# Altium integrated library TI_Logic_Flip-Flop,Latch,Register.IntLib: 2598 symbols (part 40 of 122)
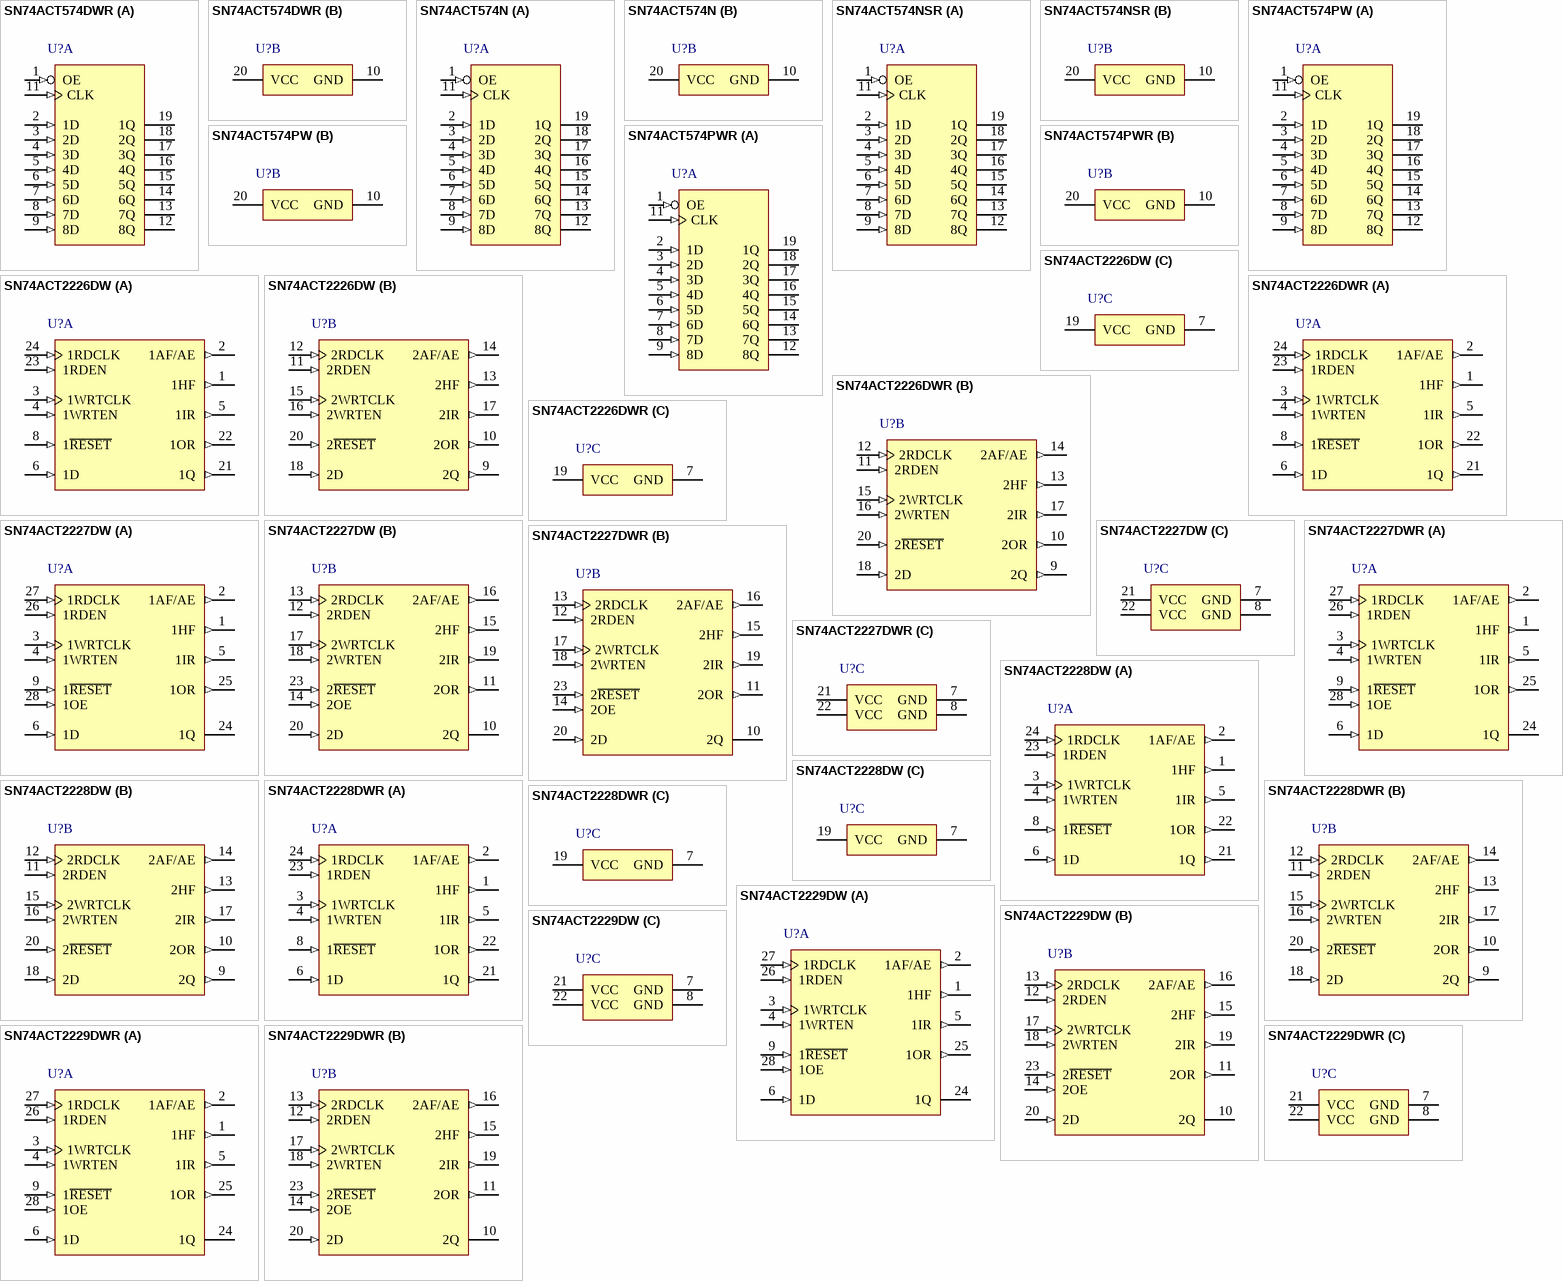
[diagram p178: symbols SN74ACT574DWR to SN74ACT2229DWR]

## SN74ACT2227DWR
designator U?
64 x 1 x 2 dual independent synchronous FIFO memories, DW0028A, LARGE T&R; Generic Part Number: SN74ACT2227; Manufacturer: Texas Instruments; PartNumber: SN74ACT2227DWR; Vcc range(V): 4.5 to 5.5; Fmax(MHz): 60; Voltage Nodes(V): 5; Sync/Async: S; Rating: Catalog; Output Drive(mA): -0.5; Flags Empty: YES; DatasheetVersion: SCAS220C; PackageReference: DW0028A; Depth: 64; Width: 1; Operating Temperature Range(C): -40 to 85; Flags Full: YES; Flags Half: YES; Code_JEDEC: MS-013; ComponentLink1Description: Manufacturer URL; ComponentLink1URL: http://www.ti.com/; ComponentLink2Description: Datasheet; ComponentLink2URL: http://www.ti.com/lit/ds/symlink/sn74act2227.pdf; ComponentLink3Description: Package Specification; ComponentLink3URL: http://www.ti.com/lit/ml/mpds175a/mpds175a.pdf
footprint DW0028A_N (SOIC, 28-Leads, Body 18.1x7.6mm, Pitch 1.27mm, IPC Medium Density)
footprint DW0028A_M (SOIC, 28-Leads, Body 18.1x7.6mm, Pitch 1.27mm, IPC Low Density)
footprint DW0028A_L (SOIC, 28-Leads, Body 18.1x7.6mm, Pitch 1.27mm, IPC High Density)
part A pins: 1 1HF (out) "Half-full flag. HF is high when the number of bits stored in memory is greater than or equal to half the FIFO depth. HF is set low after reset.", 2 1AF/AE (out) "Almost-full/almost-empty flag. AF/AE is high when the memory is eight locations or fewer from a full or empty state. AF/AE is set high after reset.", 3 1WRTCLK (in) "Write clock. WRTCLK is a continuous clock and can be independent of any other clock on the device. A low-to-high transition of WRTCLK writes data to memory when WRTEN and IR are high. IR is synchronous with the low-to-high (See Datasheet)", 4 1WRTEN (in) "Write enable. When WRTEN and IR are high, data is written to the FIFO on a low-to-high transition of WRTCLK.", 5 1IR (out) "Input-ready flag. IR is synchronized to the low-to-high transition of WRTCLK. When IR is low, the FIFO is full and writes are disabled. IR is set low during reset and is set high on the second low-to-high transition of (See Datasheet)", 6 1D (in) "Data input", 9 1~{RESET} (in) "Reset. To reset the FIFO, four low-to-high transitions of RDCLK and four low-to-high transitions of WRTCLK must occur while R\E\S\E\T\ is low. This sets HF, IR, and OR low and AF/AE high. Before it is used, a FIFO must be (See Datasheet)", 24 1Q (hiz) "Data outputs. After the first valid write to empty memory, the first bit is output on the third rising edge of RDCLK. OR for the FIFO is asserted high to indicate ready data.", 25 1OR (out) "Output-ready flag. OR is synchronized to the low-to-high transition of RDCLK. When OR is low, the FIFO is empty and reads are disabled. Ready data is present on the data output when OR is high. OR is set low during reset and (See Datasheet)", 26 1RDEN (in) "Read enable. When the RDEN and OR of a FIFO are high, data is read from the FIFO on the low-to-high transition of RDCLK.", 27 1RDCLK (in) "Read clock. RDCLK is a continuous clock and can be independent of any other clock on the device. A low-to-high transition of RDCLK reads data from memory when the FIFO RDEN and OR are high. OR is synchronous with the (See Datasheet)", 28 1OE (in) "Output enable. The data output of a FIFO is active when OE is high and in the high-impedance state when OE is low."
part B pins: 10 2Q (hiz) "Data outputs. After the first valid write to empty memory, the first bit is output on the third rising edge of RDCLK. OR for the FIFO is asserted high to indicate ready data.", 11 2OR (out) "Output-ready flag. OR is synchronized to the low-to-high transition of RDCLK. When OR is low, the FIFO is empty and reads are disabled. Ready data is present on the data output when OR is high. OR is set low during reset and (See Datasheet)", 12 2RDEN (in) "Read enable. When the RDEN and OR of a FIFO are high, data is read from the FIFO on the low-to-high transition of RDCLK.", 13 2RDCLK (in) "Read clock. RDCLK is a continuous clock and can be independent of any other clock on the device. A low-to-high transition of RDCLK reads data from memory when the FIFO RDEN and OR are high. OR is synchronous with the (See Datasheet)", 14 2OE (in) "Output enable. The data output of a FIFO is active when OE is high and in the high-impedance state when OE is low.", 15 2HF (out) "Half-full flag. HF is high when the number of bits stored in memory is greater than or equal to half the FIFO depth. HF is set low after reset.", 16 2AF/AE (out) "Almost-full/almost-empty flag. AF/AE is high when the memory is eight locations or fewer from a full or empty state. AF/AE is set high after reset.", 17 2WRTCLK (in) "Write clock. WRTCLK is a continuous clock and can be independent of any other clock on the device. A low-to-high transition of WRTCLK writes data to memory when WRTEN and IR are high. IR is synchronous with the low-to-high (See Datasheet)", 18 2WRTEN (in) "Write enable. When WRTEN and IR are high, data is written to the FIFO on a low-to-high transition of WRTCLK.", 19 2IR (out) "Input-ready flag. IR is synchronized to the low-to-high transition of WRTCLK. When IR is low, the FIFO is full and writes are disabled. IR is set low during reset and is set high on the second low-to-high transition of (See Datasheet)", 20 2D (in) "Data input", 23 2~{RESET} (in) "Reset. To reset the FIFO, four low-to-high transitions of RDCLK and four low-to-high transitions of WRTCLK must occur while R\E\S\E\T\ is low. This sets HF, IR, and OR low and AF/AE high. Before it is used, a FIFO must be (See Datasheet)"
part C pins: 7 GND (power) "Ground", 8 GND (power) "Ground", 21 VCC (power) "Supply voltage", 22 VCC (power) "Supply voltage"

## SN74ACT2228DW
designator U?
256 x 1 x 2 dual independent synchronous FIFO memories, DW0024A, TUBE; Generic Part Number: SN74ACT2228; Manufacturer: Texas Instruments; PartNumber: SN74ACT2228DW; Vcc range(V): 4.5 to 5.5; Fmax(MHz): 22; Voltage Nodes(V): 5; Sync/Async: S; Rating: Catalog; Output Drive(mA): -0.5; Flags Empty: YES; DatasheetVersion: SCAS219C; PackageReference: DW0024A; Depth: 256; Width: 1; Operating Temperature Range(C): -40 to 85; Flags Full: YES; Flags Half: YES; Code_JEDEC: MS-013; ComponentLink1Description: Manufacturer URL; ComponentLink1URL: http://www.ti.com/; ComponentLink2Description: Datasheet; ComponentLink2URL: http://www.ti.com/lit/ds/symlink/sn74act2228.pdf; ComponentLink3Description: Package Specification; ComponentLink3URL: http://www.ti.com/lit/ml/mpds174a/mpds174a.pdf
footprint DW0024A_N (SOIC, 24-Leads, Body 15.6x7.6mm, Pitch 1.27mm, IPC Medium Density)
footprint DW0024A_M (SOIC, 24-Leads, Body 15.6x7.6mm, Pitch 1.27mm, IPC Low Density)
footprint DW0024A_L (SOIC, 24-Leads, Body 15.6x7.6mm, Pitch 1.27mm, IPC High Density)
part A pins: 1 1HF (out) "Half-full flag. HF is high when the number of bits stored in memory is greater than or equal to half the FIFO depth. HF is set low after reset.", 2 1AF/AE (out) "Almost-full/almost-empty flag. AF/AE is high when the memory is eight locations or less from a full or empty state. AF/AE is set high after reset.", 3 1WRTCLK (in) "Write clock. WRTCLK is a continuous clock and can be independent of any other clock on the device. A low-to-high transition of WRTCLK writes data to memory when WRTEN and IR are high. IR is synchronous with the low-to-high (See Datasheet)", 4 1WRTEN (in) "Write enable. When WRTEN and IR are high, data is written to the FIFO on a low-to-high transition of WRTCLK.", 5 1IR (out) "Input-ready flag. IR is synchronized to the low-to-high transition of WRTCLK. When IR is low, the FIFO is full and writes are disabled. IR is set low during reset and is set high on the second low-to-high transition of (See Datasheet)", 6 1D (in) "Data input", 8 1~{RESET} (in) "Reset. To reset the FIFO, four low-to-high transitions of RDCLK and four low-to-high transitions of WRTCLK must occur while R\E\S\E\T\ is low. This sets HF, IR, and OR low and AF/AE high. Before it is used, a FIFO must be (See Datasheet)", 21 1Q (out) "Data outputs. After the first valid write to empty memory, the first bit is output on the third rising edge of RDCLK. OR for the FIFO is asserted high to indicate ready data.", 22 1OR (out) "Output-ready flag. OR is synchronized to the low-to-high transition of RDCLK. When OR is low, the FIFO is empty and reads are disabled. Ready data is present on the data output when OR is high. OR is set low during reset and (See Datasheet)", 23 1RDEN (in) "Read enable. When the RDEN and OR of a FIFO are high, data is read from the FIFO on the low-to-high transition of RDCLK.", 24 1RDCLK (in) "Read clock. RDCLK is a continuous clock and can be independent of any other clock on the device. A low-to-high transition of RDCLK reads data from memory when the FIFO RDEN and OR are high. OR is synchronous with the (See Datasheet)"
part B pins: 9 2Q (out) "Data outputs. After the first valid write to empty memory, the first bit is output on the third rising edge of RDCLK. OR for the FIFO is asserted high to indicate ready data.", 10 2OR (out) "Output-ready flag. OR is synchronized to the low-to-high transition of RDCLK. When OR is low, the FIFO is empty and reads are disabled. Ready data is present on the data output when OR is high. OR is set low during reset and (See Datasheet)", 11 2RDEN (in) "Read enable. When the RDEN and OR of a FIFO are high, data is read from the FIFO on the low-to-high transition of RDCLK.", 12 2RDCLK (in) "Read clock. RDCLK is a continuous clock and can be independent of any other clock on the device. A low-to-high transition of RDCLK reads data from memory when the FIFO RDEN and OR are high. OR is synchronous with the (See Datasheet)", 13 2HF (out) "Half-full flag. HF is high when the number of bits stored in memory is greater than or equal to half the FIFO depth. HF is set low after reset.", 14 2AF/AE (out) "Almost-full/almost-empty flag. AF/AE is high when the memory is eight locations or less from a full or empty state. AF/AE is set high after reset.", 15 2WRTCLK (in) "Write clock. WRTCLK is a continuous clock and can be independent of any other clock on the device. A low-to-high transition of WRTCLK writes data to memory when WRTEN and IR are high. IR is synchronous with the low-to-high (See Datasheet)", 16 2WRTEN (in) "Write enable. When WRTEN and IR are high, data is written to the FIFO on a low-to-high transition of WRTCLK.", 17 2IR (out) "Input-ready flag. IR is synchronized to the low-to-high transition of WRTCLK. When IR is low, the FIFO is full and writes are disabled. IR is set low during reset and is set high on the second low-to-high transition of (See Datasheet)", 18 2D (in) "Data input", 20 2~{RESET} (in) "Reset. To reset the FIFO, four low-to-high transitions of RDCLK and four low-to-high transitions of WRTCLK must occur while R\E\S\E\T\ is low. This sets HF, IR, and OR low and AF/AE high. Before it is used, a FIFO must be (See Datasheet)"
part C pins: 7 GND (power) "Ground", 19 VCC (power) "Supply voltage"

## SN74ACT2228DWR
designator U?
256 x 1 x 2 dual independent synchronous FIFO memories, DW0024A, LARGE T&R; Generic Part Number: SN74ACT2228; Manufacturer: Texas Instruments; PartNumber: SN74ACT2228DWR; Vcc range(V): 4.5 to 5.5; Fmax(MHz): 22; Voltage Nodes(V): 5; Sync/Async: S; Rating: Catalog; Output Drive(mA): -0.5; Flags Empty: YES; DatasheetVersion: SCAS219C; PackageReference: DW0024A; Depth: 256; Width: 1; Operating Temperature Range(C): -40 to 85; Flags Full: YES; Flags Half: YES; Code_JEDEC: MS-013; ComponentLink1Description: Manufacturer URL; ComponentLink1URL: http://www.ti.com/; ComponentLink2Description: Datasheet; ComponentLink2URL: http://www.ti.com/lit/ds/symlink/sn74act2228.pdf; ComponentLink3Description: Package Specification; ComponentLink3URL: http://www.ti.com/lit/ml/mpds174a/mpds174a.pdf
footprint DW0024A_N (SOIC, 24-Leads, Body 15.6x7.6mm, Pitch 1.27mm, IPC Medium Density)
footprint DW0024A_M (SOIC, 24-Leads, Body 15.6x7.6mm, Pitch 1.27mm, IPC Low Density)
footprint DW0024A_L (SOIC, 24-Leads, Body 15.6x7.6mm, Pitch 1.27mm, IPC High Density)
part A pins: 1 1HF (out) "Half-full flag. HF is high when the number of bits stored in memory is greater than or equal to half the FIFO depth. HF is set low after reset.", 2 1AF/AE (out) "Almost-full/almost-empty flag. AF/AE is high when the memory is eight locations or less from a full or empty state. AF/AE is set high after reset.", 3 1WRTCLK (in) "Write clock. WRTCLK is a continuous clock and can be independent of any other clock on the device. A low-to-high transition of WRTCLK writes data to memory when WRTEN and IR are high. IR is synchronous with the low-to-high (See Datasheet)", 4 1WRTEN (in) "Write enable. When WRTEN and IR are high, data is written to the FIFO on a low-to-high transition of WRTCLK.", 5 1IR (out) "Input-ready flag. IR is synchronized to the low-to-high transition of WRTCLK. When IR is low, the FIFO is full and writes are disabled. IR is set low during reset and is set high on the second low-to-high transition of (See Datasheet)", 6 1D (in) "Data input", 8 1~{RESET} (in) "Reset. To reset the FIFO, four low-to-high transitions of RDCLK and four low-to-high transitions of WRTCLK must occur while R\E\S\E\T\ is low. This sets HF, IR, and OR low and AF/AE high. Before it is used, a FIFO must be (See Datasheet)", 21 1Q (out) "Data outputs. After the first valid write to empty memory, the first bit is output on the third rising edge of RDCLK. OR for the FIFO is asserted high to indicate ready data.", 22 1OR (out) "Output-ready flag. OR is synchronized to the low-to-high transition of RDCLK. When OR is low, the FIFO is empty and reads are disabled. Ready data is present on the data output when OR is high. OR is set low during reset and (See Datasheet)", 23 1RDEN (in) "Read enable. When the RDEN and OR of a FIFO are high, data is read from the FIFO on the low-to-high transition of RDCLK.", 24 1RDCLK (in) "Read clock. RDCLK is a continuous clock and can be independent of any other clock on the device. A low-to-high transition of RDCLK reads data from memory when the FIFO RDEN and OR are high. OR is synchronous with the (See Datasheet)"
part B pins: 9 2Q (out) "Data outputs. After the first valid write to empty memory, the first bit is output on the third rising edge of RDCLK. OR for the FIFO is asserted high to indicate ready data.", 10 2OR (out) "Output-ready flag. OR is synchronized to the low-to-high transition of RDCLK. When OR is low, the FIFO is empty and reads are disabled. Ready data is present on the data output when OR is high. OR is set low during reset and (See Datasheet)", 11 2RDEN (in) "Read enable. When the RDEN and OR of a FIFO are high, data is read from the FIFO on the low-to-high transition of RDCLK.", 12 2RDCLK (in) "Read clock. RDCLK is a continuous clock and can be independent of any other clock on the device. A low-to-high transition of RDCLK reads data from memory when the FIFO RDEN and OR are high. OR is synchronous with the (See Datasheet)", 13 2HF (out) "Half-full flag. HF is high when the number of bits stored in memory is greater than or equal to half the FIFO depth. HF is set low after reset.", 14 2AF/AE (out) "Almost-full/almost-empty flag. AF/AE is high when the memory is eight locations or less from a full or empty state. AF/AE is set high after reset.", 15 2WRTCLK (in) "Write clock. WRTCLK is a continuous clock and can be independent of any other clock on the device. A low-to-high transition of WRTCLK writes data to memory when WRTEN and IR are high. IR is synchronous with the low-to-high (See Datasheet)", 16 2WRTEN (in) "Write enable. When WRTEN and IR are high, data is written to the FIFO on a low-to-high transition of WRTCLK.", 17 2IR (out) "Input-ready flag. IR is synchronized to the low-to-high transition of WRTCLK. When IR is low, the FIFO is full and writes are disabled. IR is set low during reset and is set high on the second low-to-high transition of (See Datasheet)", 18 2D (in) "Data input", 20 2~{RESET} (in) "Reset. To reset the FIFO, four low-to-high transitions of RDCLK and four low-to-high transitions of WRTCLK must occur while R\E\S\E\T\ is low. This sets HF, IR, and OR low and AF/AE high. Before it is used, a FIFO must be (See Datasheet)"
part C pins: 7 GND (power) "Ground", 19 VCC (power) "Supply voltage"

## SN74ACT2229DW
designator U?
256 x 1 x 2 dual independent synchronous FIFO memories, DW0028A, TUBE; Generic Part Number: SN74ACT2229; Manufacturer: Texas Instruments; PartNumber: SN74ACT2229DW; Vcc range(V): 4.5 to 5.5; Fmax(MHz): 60; Voltage Nodes(V): 5; Sync/Async: S; Rating: Catalog; Output Drive(mA): -0.5; Flags Empty: YES; DatasheetVersion: SCAS220C; PackageReference: DW0028A; Depth: 256; Width: 1; Operating Temperature Range(C): -40 to 85; Flags Full: YES; Flags Half: YES; Code_JEDEC: MS-013; ComponentLink1Description: Manufacturer URL; ComponentLink1URL: http://www.ti.com/; ComponentLink2Description: Datasheet; ComponentLink2URL: http://www.ti.com/lit/ds/symlink/sn74act2229.pdf; ComponentLink3Description: Package Specification; ComponentLink3URL: http://www.ti.com/lit/ml/mpds175a/mpds175a.pdf
footprint DW0028A_N (SOIC, 28-Leads, Body 18.1x7.6mm, Pitch 1.27mm, IPC Medium Density)
footprint DW0028A_M (SOIC, 28-Leads, Body 18.1x7.6mm, Pitch 1.27mm, IPC Low Density)
footprint DW0028A_L (SOIC, 28-Leads, Body 18.1x7.6mm, Pitch 1.27mm, IPC High Density)
part A pins: 1 1HF (out) "Half-full flag. HF is high when the number of bits stored in memory is greater than or equal to half the FIFO depth. HF is set low after reset.", 2 1AF/AE (out) "Almost-full/almost-empty flag. AF/AE is high when the memory is eight locations or fewer from a full or empty state. AF/AE is set high after reset.", 3 1WRTCLK (in) "Write clock. WRTCLK is a continuous clock and can be independent of any other clock on the device. A low-to-high transition of WRTCLK writes data to memory when WRTEN and IR are high. IR is synchronous with the low-to-high (See Datasheet)", 4 1WRTEN (in) "Write enable. When WRTEN and IR are high, data is written to the FIFO on a low-to-high transition of WRTCLK.", 5 1IR (out) "Input-ready flag. IR is synchronized to the low-to-high transition of WRTCLK. When IR is low, the FIFO is full and writes are disabled. IR is set low during reset and is set high on the second low-to-high transition of (See Datasheet)", 6 1D (in) "Data input", 9 1~{RESET} (in) "Reset. To reset the FIFO, four low-to-high transitions of RDCLK and four low-to-high transitions of WRTCLK must occur while R\E\S\E\T\ is low. This sets HF, IR, and OR low and AF/AE high. Before it is used, a FIFO must be (See Datasheet)", 24 1Q (hiz) "Data outputs. After the first valid write to empty memory, the first bit is output on the third rising edge of RDCLK. OR for the FIFO is asserted high to indicate ready data.", 25 1OR (out) "Output-ready flag. OR is synchronized to the low-to-high transition of RDCLK. When OR is low, the FIFO is empty and reads are disabled. Ready data is present on the data output when OR is high. OR is set low during reset and (See Datasheet)", 26 1RDEN (in) "Read enable. When the RDEN and OR of a FIFO are high, data is read from the FIFO on the low-to-high transition of RDCLK.", 27 1RDCLK (in) "Read clock. RDCLK is a continuous clock and can be independent of any other clock on the device. A low-to-high transition of RDCLK reads data from memory when the FIFO RDEN and OR are high. OR is synchronous with the (See Datasheet)", 28 1OE (in) "Output enable. The data output of a FIFO is active when OE is high and in the high-impedance state when OE is low."
part B pins: 10 2Q (hiz) "Data outputs. After the first valid write to empty memory, the first bit is output on the third rising edge of RDCLK. OR for the FIFO is asserted high to indicate ready data.", 11 2OR (out) "Output-ready flag. OR is synchronized to the low-to-high transition of RDCLK. When OR is low, the FIFO is empty and reads are disabled. Ready data is present on the data output when OR is high. OR is set low during reset and (See Datasheet)", 12 2RDEN (in) "Read enable. When the RDEN and OR of a FIFO are high, data is read from the FIFO on the low-to-high transition of RDCLK.", 13 2RDCLK (in) "Read clock. RDCLK is a continuous clock and can be independent of any other clock on the device. A low-to-high transition of RDCLK reads data from memory when the FIFO RDEN and OR are high. OR is synchronous with the (See Datasheet)", 14 2OE (in) "Output enable. The data output of a FIFO is active when OE is high and in the high-impedance state when OE is low.", 15 2HF (out) "Half-full flag. HF is high when the number of bits stored in memory is greater than or equal to half the FIFO depth. HF is set low after reset.", 16 2AF/AE (out) "Almost-full/almost-empty flag. AF/AE is high when the memory is eight locations or fewer from a full or empty state. AF/AE is set high after reset.", 17 2WRTCLK (in) "Write clock. WRTCLK is a continuous clock and can be independent of any other clock on the device. A low-to-high transition of WRTCLK writes data to memory when WRTEN and IR are high. IR is synchronous with the low-to-high (See Datasheet)", 18 2WRTEN (in) "Write enable. When WRTEN and IR are high, data is written to the FIFO on a low-to-high transition of WRTCLK.", 19 2IR (out) "Input-ready flag. IR is synchronized to the low-to-high transition of WRTCLK. When IR is low, the FIFO is full and writes are disabled. IR is set low during reset and is set high on the second low-to-high transition of (See Datasheet)", 20 2D (in) "Data input", 23 2~{RESET} (in) "Reset. To reset the FIFO, four low-to-high transitions of RDCLK and four low-to-high transitions of WRTCLK must occur while R\E\S\E\T\ is low. This sets HF, IR, and OR low and AF/AE high. Before it is used, a FIFO must be (See Datasheet)"
part C pins: 7 GND (power) "Ground", 8 GND (power) "Ground", 21 VCC (power) "Supply voltage", 22 VCC (power) "Supply voltage"

## SN74ACT2229DWR
designator U?
256 x 1 x 2 dual independent synchronous FIFO memories, DW0028A, LARGE T&R; Generic Part Number: SN74ACT2229; Manufacturer: Texas Instruments; PartNumber: SN74ACT2229DWR; Vcc range(V): 4.5 to 5.5; Fmax(MHz): 60; Voltage Nodes(V): 5; Sync/Async: S; Rating: Catalog; Output Drive(mA): -0.5; Flags Empty: YES; DatasheetVersion: SCAS220C; PackageReference: DW0028A; Depth: 256; Width: 1; Operating Temperature Range(C): -40 to 85; Flags Full: YES; Flags Half: YES; Code_JEDEC: MS-013; ComponentLink1Description: Manufacturer URL; ComponentLink1URL: http://www.ti.com/; ComponentLink2Description: Datasheet; ComponentLink2URL: http://www.ti.com/lit/ds/symlink/sn74act2229.pdf; ComponentLink3Description: Package Specification; ComponentLink3URL: http://www.ti.com/lit/ml/mpds175a/mpds175a.pdf
footprint DW0028A_N (SOIC, 28-Leads, Body 18.1x7.6mm, Pitch 1.27mm, IPC Medium Density)
footprint DW0028A_M (SOIC, 28-Leads, Body 18.1x7.6mm, Pitch 1.27mm, IPC Low Density)
footprint DW0028A_L (SOIC, 28-Leads, Body 18.1x7.6mm, Pitch 1.27mm, IPC High Density)
part A pins: 1 1HF (out) "Half-full flag. HF is high when the number of bits stored in memory is greater than or equal to half the FIFO depth. HF is set low after reset.", 2 1AF/AE (out) "Almost-full/almost-empty flag. AF/AE is high when the memory is eight locations or fewer from a full or empty state. AF/AE is set high after reset.", 3 1WRTCLK (in) "Write clock. WRTCLK is a continuous clock and can be independent of any other clock on the device. A low-to-high transition of WRTCLK writes data to memory when WRTEN and IR are high. IR is synchronous with the low-to-high (See Datasheet)", 4 1WRTEN (in) "Write enable. When WRTEN and IR are high, data is written to the FIFO on a low-to-high transition of WRTCLK.", 5 1IR (out) "Input-ready flag. IR is synchronized to the low-to-high transition of WRTCLK. When IR is low, the FIFO is full and writes are disabled. IR is set low during reset and is set high on the second low-to-high transition of (See Datasheet)", 6 1D (in) "Data input", 9 1~{RESET} (in) "Reset. To reset the FIFO, four low-to-high transitions of RDCLK and four low-to-high transitions of WRTCLK must occur while R\E\S\E\T\ is low. This sets HF, IR, and OR low and AF/AE high. Before it is used, a FIFO must be (See Datasheet)", 24 1Q (hiz) "Data outputs. After the first valid write to empty memory, the first bit is output on the third rising edge of RDCLK. OR for the FIFO is asserted high to indicate ready data.", 25 1OR (out) "Output-ready flag. OR is synchronized to the low-to-high transition of RDCLK. When OR is low, the FIFO is empty and reads are disabled. Ready data is present on the data output when OR is high. OR is set low during reset and (See Datasheet)", 26 1RDEN (in) "Read enable. When the RDEN and OR of a FIFO are high, data is read from the FIFO on the low-to-high transition of RDCLK.", 27 1RDCLK (in) "Read clock. RDCLK is a continuous clock and can be independent of any other clock on the device. A low-to-high transition of RDCLK reads data from memory when the FIFO RDEN and OR are high. OR is synchronous with the (See Datasheet)", 28 1OE (in) "Output enable. The data output of a FIFO is active when OE is high and in the high-impedance state when OE is low."
part B pins: 10 2Q (hiz) "Data outputs. After the first valid write to empty memory, the first bit is output on the third rising edge of RDCLK. OR for the FIFO is asserted high to indicate ready data.", 11 2OR (out) "Output-ready flag. OR is synchronized to the low-to-high transition of RDCLK. When OR is low, the FIFO is empty and reads are disabled. Ready data is present on the data output when OR is high. OR is set low during reset and (See Datasheet)", 12 2RDEN (in) "Read enable. When the RDEN and OR of a FIFO are high, data is read from the FIFO on the low-to-high transition of RDCLK.", 13 2RDCLK (in) "Read clock. RDCLK is a continuous clock and can be independent of any other clock on the device. A low-to-high transition of RDCLK reads data from memory when the FIFO RDEN and OR are high. OR is synchronous with the (See Datasheet)", 14 2OE (in) "Output enable. The data output of a FIFO is active when OE is high and in the high-impedance state when OE is low.", 15 2HF (out) "Half-full flag. HF is high when the number of bits stored in memory is greater than or equal to half the FIFO depth. HF is set low after reset.", 16 2AF/AE (out) "Almost-full/almost-empty flag. AF/AE is high when the memory is eight locations or fewer from a full or empty state. AF/AE is set high after reset.", 17 2WRTCLK (in) "Write clock. WRTCLK is a continuous clock and can be independent of any other clock on the device. A low-to-high transition of WRTCLK writes data to memory when WRTEN and IR are high. IR is synchronous with the low-to-high (See Datasheet)", 18 2WRTEN (in) "Write enable. When WRTEN and IR are high, data is written to the FIFO on a low-to-high transition of WRTCLK.", 19 2IR (out) "Input-ready flag. IR is synchronized to the low-to-high transition of WRTCLK. When IR is low, the FIFO is full and writes are disabled. IR is set low during reset and is set high on the second low-to-high transition of (See Datasheet)", 20 2D (in) "Data input", 23 2~{RESET} (in) "Reset. To reset the FIFO, four low-to-high transitions of RDCLK and four low-to-high transitions of WRTCLK must occur while R\E\S\E\T\ is low. This sets HF, IR, and OR low and AF/AE high. Before it is used, a FIFO must be (See Datasheet)"
part C pins: 7 GND (power) "Ground", 8 GND (power) "Ground", 21 VCC (power) "Supply voltage", 22 VCC (power) "Supply voltage"

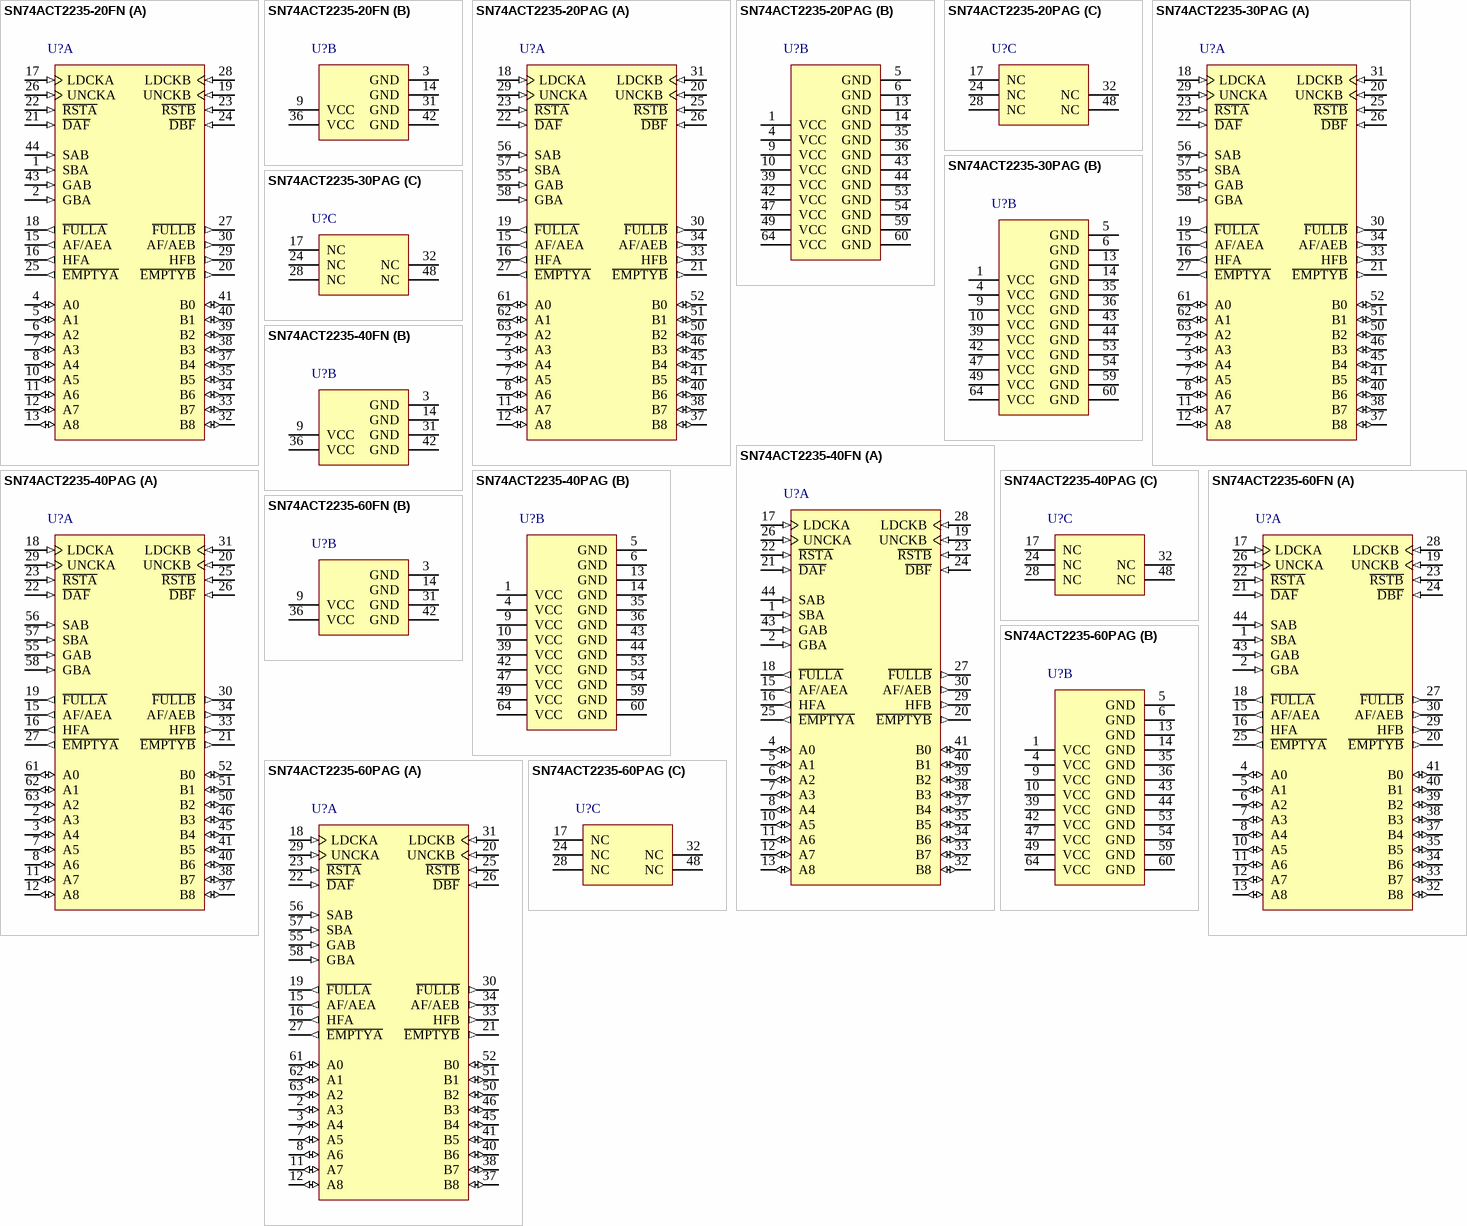
[diagram p53: symbols SN74ACT2235-20FN to SN74ACT2235-60PAG]

## SN74ACT2235-20FN
designator U?
1024 x 9 x 2 Asynchronous Bidirectional FIFO Memory, FN0044A, TUBE; Generic Part Number: SN74ACT2235; Manufacturer: Texas Instruments; PartNumber: SN74ACT2235-20FN; Vcc range(V): 4.5 to 5.5; Fmax(MHz): 50; Voltage Nodes(V): 5; Sync/Async: A; Rating: Catalog; Output Drive(mA): -0.5; Flags Empty: YES; DatasheetVersion: SCAS148F; PackageReference: FN0044A; Depth: 1024; Width: 9; Operating Temperature Range(C): 0 to 70; Flags Full: YES; Flags Half: YES; Code_JEDEC: MS-018; ComponentLink1Description: Manufacturer URL; ComponentLink1URL: http://www.ti.com/; ComponentLink2Description: Datasheet; ComponentLink2URL: http://www.ti.com/lit/ds/symlink/sn74act2235.pdf; ComponentLink3Description: Package Specification; ComponentLink3URL: http://www.ti.com/lit/ml/mplc004a/mplc004a.pdf
footprint FN0044A_N (PLCC, 44-Leads, Body 16.66x16.66mm, Pitch 1.27mm, IPC Medium Density)
footprint FN0044A_M (PLCC, 44-Leads, Body 16.66x16.66mm, Pitch 1.27mm, IPC Low Density)
footprint FN0044A_L (PLCC, 44-Leads, Body 16.66x16.66mm, Pitch 1.27mm, IPC High Density)
part A pins: 1 SBA (in) "Select-control inputs. SAB and SBA select whether real-time or stored data is transferred. A low level selects real-time data and a high level selects stored data. Eight fundamental bus-management functions can be performed (See Datasheet)", 2 GBA (in) "Output enables. GAB, GBA control the transceiver functions. When GBA is low, A0-A8 are in the high-impedance state. When GAB is low, B0-B8 are in the high-impedance state.", 4 A0 (io) "A-data inputs and outputs", 5 A1 (io) "A-data inputs and outputs", 6 A2 (io) "A-data inputs and outputs", 7 A3 (io) "A-data inputs and outputs", 8 A4 (io) "A-data inputs and outputs", 10 A5 (io) "A-data inputs and outputs", 11 A6 (io) "A-data inputs and outputs", 12 A7 (io) "A-data inputs and outputs", 13 A8 (io) "A-data inputs and outputs", 15 AF/AEA (out) "Almost full/almost empty flags. The almost-full/almost-empty A flag (AF/AEA) is defined by the almost-full/almost-empty offset value for FIFO A (X). AF/AEA is high when FIFO A contains X or fewer words or 1024 - X words. (See Datasheet)", 16 HFA (out) "Half-full flags. HFA and HFB are high when their corresponding memories contain 512 or more words and low when they contain 511 or fewer words.", 17 LDCKA (in) "Load clocks. Data on A0-A8 is written into FIFO A on a low-to-high transition of LDCKA. Data on B0-B8 is written into FIFO B on a low-to-high transition of LDCKB. When the FIFOs are full, LDCKA and LDCKB have no effect on (See Datasheet)", 18 ~{FULLA} (out) "Full flags. F\U\L\L\A\ and F\U\L\L\B\ are low when their corresponding memories are full and high when they are not full.", 19 UNCKB (in) "Unload clocks. Data in FIFO A is read to B0-B8 on a low-to-high transition of UNCKA. Data in FIFO B is read to A0-A8 on a low-to-high transition of UNCKB. When the FIFOs are empty, UNCKA and UNCKB have no effect on data (See Datasheet)", 20 ~{EMPTYB} (out) "Empty flags. E\M\P\T\Y\A\ and E\M\P\T\Y\B\ are low when their corresponding memories are empty and high when they are not empty.", 21 ~{DAF} (in) "Define-flag inputs. The high-to-low transition of D\A\F\ stores the binary value on A0-A8 as the almost-full/almost-empty offset value for FIFO A (X). The high-to-low transition of D\B\F\ stores the binary value of B0-B8 as (See Datasheet)", 22 ~{RSTA} (in) "Reset. A reset is accomplished in each direction by taking R\S\T\A\ and R\S\T\B\ low. This sets E\M\P\T\Y\A\, E\M\P\T\Y\B\, F\U\L\L\A\, F\U\L\L\B\, and AF/AEB high. Both FIFOs must be reset upon power up.", 23 ~{RSTB} (in) "Reset. A reset is accomplished in each direction by taking R\S\T\A\ and R\S\T\B\ low. This sets E\M\P\T\Y\A\, E\M\P\T\Y\B\, F\U\L\L\A\, F\U\L\L\B\, and AF/AEB high. Both FIFOs must be reset upon power up.", 24 ~{DBF} (in) "Define-flag inputs. The high-to-low transition of D\A\F\ stores the binary value on A0-A8 as the almost-full/almost-empty offset value for FIFO A (X). The high-to-low transition of D\B\F\ stores the binary value of B0-B8 as (See Datasheet)", 25 ~{EMPTYA} (out) "Empty flags. E\M\P\T\Y\A\ and E\M\P\T\Y\B\ are low when their corresponding memories are empty and high when they are not empty.", 26 UNCKA (in) "Unload clocks. Data in FIFO A is read to B0-B8 on a low-to-high transition of UNCKA. Data in FIFO B is read to A0-A8 on a low-to-high transition of UNCKB. When the FIFOs are empty, UNCKA and UNCKB have no effect on data (See Datasheet)", 27 ~{FULLB} (out) "Full flags. F\U\L\L\A\ and F\U\L\L\B\ are low when their corresponding memories are full and high when they are not full.", 28 LDCKB (in) "Load clocks. Data on A0-A8 is written into FIFO A on a low-to-high transition of LDCKA. Data on B0-B8 is written into FIFO B on a low-to-high transition of LDCKB. When the FIFOs are full, LDCKA and LDCKB have no effect on (See Datasheet)", 29 HFB (out) "Half-full flags. HFA and HFB are high when their corresponding memories contain 512 or more words and low when they contain 511 or fewer words.", 30 AF/AEB (out) "Almost full/almost empty flags. The almost-full/almost-empty A flag (AF/AEA) is defined by the almost-full/almost-empty offset value for FIFO A (X). AF/AEA is high when FIFO A contains X or fewer words or 1024 - X words. (See Datasheet)", 32 B8 (io) "B-data inputs and outputs", 33 B7 (io) "B-data inputs and outputs", 34 B6 (io) "B-data inputs and outputs", 35 B5 (io) "B-data inputs and outputs", 37 B4 (io) "B-data inputs and outputs", 38 B3 (io) "B-data inputs and outputs", 39 B2 (io) "B-data inputs and outputs", 40 B1 (io) "B-data inputs and outputs", 41 B0 (io) "B-data inputs and outputs", 43 GAB (in) "Output enables. GAB, GBA control the transceiver functions. When GBA is low, A0-A8 are in the high-impedance state. When GAB is low, B0-B8 are in the high-impedance state.", 44 SAB (in) "Select-control inputs. SAB and SBA select whether real-time or stored data is transferred. A low level selects real-time data and a high level selects stored data. Eight fundamental bus-management functions can be performed (See Datasheet)"
part B pins: 3 GND (power), 9 VCC (power), 14 GND (power), 31 GND (power), 36 VCC (power), 42 GND (power)

## SN74ACT2235-20PAG
designator U?
1024 x 9 x 2 Asynchronous Bidirectional FIFO Memory, PAG0064A, JEDEC TRAY (10+1); Generic Part Number: SN74ACT2235; Manufacturer: Texas Instruments; PartNumber: SN74ACT2235-20PAG; Vcc range(V): 4.5 to 5.5; Fmax(MHz): 50; Voltage Nodes(V): 5; Sync/Async: A; Rating: Catalog; Output Drive(mA): -0.5; Flags Empty: YES; DatasheetVersion: SCAS148F; PackageReference: PAG0064A; Depth: 1024; Width: 9; Operating Temperature Range(C): 0 to 70; Flags Full: YES; Flags Half: YES; Code_JEDEC: MS-026; ComponentLink1Description: Manufacturer URL; ComponentLink1URL: http://www.ti.com/; ComponentLink2Description: Datasheet; ComponentLink2URL: http://www.ti.com/lit/ds/symlink/sn74act2235.pdf; ComponentLink3Description: Package Specification; ComponentLink3URL: http://www.ti.com/lit/ml/mtqf006a/mtqf006a.pdf
footprint PAG0064A_N (QFP, 64-Leads, Body 10x10mm, Pitch 0.5mm, IPC Medium Density)
footprint PAG0064A_M (QFP, 64-Leads, Body 10x10mm, Pitch 0.5mm, IPC Low Density)
footprint PAG0064A_L (QFP, 64-Leads, Body 10x10mm, Pitch 0.5mm, IPC High Density)
part A pins: 2 A3 (io) "A-data inputs and outputs", 3 A4 (io) "A-data inputs and outputs", 7 A5 (io) "A-data inputs and outputs", 8 A6 (io) "A-data inputs and outputs", 11 A7 (io) "A-data inputs and outputs", 12 A8 (io) "A-data inputs and outputs", 15 AF/AEA (out) "Almost full/almost empty flags. The almost-full/almost-empty A flag (AF/AEA) is defined by the almost-full/almost-empty offset value for FIFO A (X). AF/AEA is high when FIFO A contains X or fewer words or 1024 - X words. (See Datasheet)", 16 HFA (out) "Half-full flags. HFA and HFB are high when their corresponding memories contain 512 or more words and low when they contain 511 or fewer words.", 18 LDCKA (in) "Load clocks. Data on A0-A8 is written into FIFO A on a low-to-high transition of LDCKA. Data on B0-B8 is written into FIFO B on a low-to-high transition of LDCKB. When the FIFOs are full, LDCKA and LDCKB have no effect on (See Datasheet)", 19 ~{FULLA} (out) "Full flags. F\U\L\L\A\ and F\U\L\L\B\ are low when their corresponding memories are full and high when they are not full.", 20 UNCKB (in) "Unload clocks. Data in FIFO A is read to B0-B8 on a low-to-high transition of UNCKA. Data in FIFO B is read to A0-A8 on a low-to-high transition of UNCKB. When the FIFOs are empty, UNCKA and UNCKB have no effect on data (See Datasheet)", 21 ~{EMPTYB} (out) "Empty flags. E\M\P\T\Y\A\ and E\M\P\T\Y\B\ are low when their corresponding memories are empty and high when they are not empty.", 22 ~{DAF} (in) "Define-flag inputs. The high-to-low transition of D\A\F\ stores the binary value on A0-A8 as the almost-full/almost-empty offset value for FIFO A (X). The high-to-low transition of D\B\F\ stores the binary value of B0-B8 as (See Datasheet)", 23 ~{RSTA} (in) "Reset. A reset is accomplished in each direction by taking R\S\T\A\ and R\S\T\B\ low. This sets E\M\P\T\Y\A\, E\M\P\T\Y\B\, F\U\L\L\A\, F\U\L\L\B\, and AF/AEB high. Both FIFOs must be reset upon power up.", 25 ~{RSTB} (in) "Reset. A reset is accomplished in each direction by taking R\S\T\A\ and R\S\T\B\ low. This sets E\M\P\T\Y\A\, E\M\P\T\Y\B\, F\U\L\L\A\, F\U\L\L\B\, and AF/AEB high. Both FIFOs must be reset upon power up.", 26 ~{DBF} (in) "Define-flag inputs. The high-to-low transition of D\A\F\ stores the binary value on A0-A8 as the almost-full/almost-empty offset value for FIFO A (X). The high-to-low transition of D\B\F\ stores the binary value of B0-B8 as (See Datasheet)", 27 ~{EMPTYA} (out) "Empty flags. E\M\P\T\Y\A\ and E\M\P\T\Y\B\ are low when their corresponding memories are empty and high when they are not empty.", 29 UNCKA (in) "Unload clocks. Data in FIFO A is read to B0-B8 on a low-to-high transition of UNCKA. Data in FIFO B is read to A0-A8 on a low-to-high transition of UNCKB. When the FIFOs are empty, UNCKA and UNCKB have no effect on data (See Datasheet)", 30 ~{FULLB} (out) "Full flags. F\U\L\L\A\ and F\U\L\L\B\ are low when their corresponding memories are full and high when they are not full.", 31 LDCKB (in) "Load clocks. Data on A0-A8 is written into FIFO A on a low-to-high transition of LDCKA. Data on B0-B8 is written into FIFO B on a low-to-high transition of LDCKB. When the FIFOs are full, LDCKA and LDCKB have no effect on (See Datasheet)", 33 HFB (out) "Half-full flags. HFA and HFB are high when their corresponding memories contain 512 or more words and low when they contain 511 or fewer words.", 34 AF/AEB (out) "Almost full/almost empty flags. The almost-full/almost-empty A flag (AF/AEA) is defined by the almost-full/almost-empty offset value for FIFO A (X). AF/AEA is high when FIFO A contains X or fewer words or 1024 - X words. (See Datasheet)", 37 B8 (io) "B-data inputs and outputs", 38 B7 (io) "B-data inputs and outputs", 40 B6 (io) "B-data inputs and outputs", 41 B5 (io) "B-data inputs and outputs", 45 B4 (io) "B-data inputs and outputs", 46 B3 (io) "B-data inputs and outputs", 50 B2 (io) "B-data inputs and outputs", 51 B1 (io) "B-data inputs and outputs", 52 B0 (io) "B-data inputs and outputs", 55 GAB (in) "Output enables. GAB, GBA control the transceiver functions. When GBA is low, A0-A8 are in the high-impedance state. When GAB is low, B0-B8 are in the high-impedance state.", 56 SAB (in) "Select-control inputs. SAB and SBA select whether real-time or stored data is transferred. A low level selects real-time data and a high level selects stored data. Eight fundamental bus-management functions can be performed (See Datasheet)", 57 SBA (in) "Select-control inputs. SAB and SBA select whether real-time or stored data is transferred. A low level selects real-time data and a high level selects stored data. Eight fundamental bus-management functions can be performed (See Datasheet)", 58 GBA (in) "Output enables. GAB, GBA control the transceiver functions. When GBA is low, A0-A8 are in the high-impedance state. When GAB is low, B0-B8 are in the high-impedance state.", 61 A0 (io) "A-data inputs and outputs", 62 A1 (io) "A-data inputs and outputs", 63 A2 (io) "A-data inputs and outputs"
part B pins: 1 VCC (power), 4 VCC (power), 5 GND (power), 6 GND (power), 9 VCC (power), 10 VCC (power), 13 GND (power), 14 GND (power), 35 GND (power), 36 GND (power), 39 VCC (power), 42 VCC (power), 43 GND (power), 44 GND (power), 47 VCC (power), 49 VCC (power), 53 GND (power), 54 GND (power), 59 GND (power), 60 GND (power), 64 VCC (power)
part C pins: 17 NC "No internal connection", 24 NC "No internal connection", 28 NC "No internal connection", 32 NC "No internal connection", 48 NC "No internal connection"

## SN74ACT2235-30PAG
designator U?
1024 x 9 x 2 Asynchronous Bidirectional FIFO Memory, PAG0064A, JEDEC TRAY (10+1); Generic Part Number: SN74ACT2235; Manufacturer: Texas Instruments; PartNumber: SN74ACT2235-30PAG; Vcc range(V): 4.5 to 5.5; Fmax(MHz): 33; Voltage Nodes(V): 5; Sync/Async: A; Rating: Catalog; Output Drive(mA): -0.5; Flags Empty: YES; DatasheetVersion: SCAS148F; PackageReference: PAG0064A; Depth: 1024; Width: 9; Operating Temperature Range(C): 0 to 70; Flags Full: YES; Flags Half: YES; Code_JEDEC: MS-026; ComponentLink1Description: Manufacturer URL; ComponentLink1URL: http://www.ti.com/; ComponentLink2Description: Datasheet; ComponentLink2URL: http://www.ti.com/lit/ds/symlink/sn74act2235.pdf; ComponentLink3Description: Package Specification; ComponentLink3URL: http://www.ti.com/lit/ml/mtqf006a/mtqf006a.pdf
footprint PAG0064A_N (QFP, 64-Leads, Body 10x10mm, Pitch 0.5mm, IPC Medium Density)
footprint PAG0064A_M (QFP, 64-Leads, Body 10x10mm, Pitch 0.5mm, IPC Low Density)
footprint PAG0064A_L (QFP, 64-Leads, Body 10x10mm, Pitch 0.5mm, IPC High Density)
part A pins: 2 A3 (io) "A-data inputs and outputs", 3 A4 (io) "A-data inputs and outputs", 7 A5 (io) "A-data inputs and outputs", 8 A6 (io) "A-data inputs and outputs", 11 A7 (io) "A-data inputs and outputs", 12 A8 (io) "A-data inputs and outputs", 15 AF/AEA (out) "Almost full/almost empty flags. The almost-full/almost-empty A flag (AF/AEA) is defined by the almost-full/almost-empty offset value for FIFO A (X). AF/AEA is high when FIFO A contains X or fewer words or 1024 - X words. (See Datasheet)", 16 HFA (out) "Half-full flags. HFA and HFB are high when their corresponding memories contain 512 or more words and low when they contain 511 or fewer words.", 18 LDCKA (in) "Load clocks. Data on A0-A8 is written into FIFO A on a low-to-high transition of LDCKA. Data on B0-B8 is written into FIFO B on a low-to-high transition of LDCKB. When the FIFOs are full, LDCKA and LDCKB have no effect on (See Datasheet)", 19 ~{FULLA} (out) "Full flags. F\U\L\L\A\ and F\U\L\L\B\ are low when their corresponding memories are full and high when they are not full.", 20 UNCKB (in) "Unload clocks. Data in FIFO A is read to B0-B8 on a low-to-high transition of UNCKA. Data in FIFO B is read to A0-A8 on a low-to-high transition of UNCKB. When the FIFOs are empty, UNCKA and UNCKB have no effect on data (See Datasheet)", 21 ~{EMPTYB} (out) "Empty flags. E\M\P\T\Y\A\ and E\M\P\T\Y\B\ are low when their corresponding memories are empty and high when they are not empty.", 22 ~{DAF} (in) "Define-flag inputs. The high-to-low transition of D\A\F\ stores the binary value on A0-A8 as the almost-full/almost-empty offset value for FIFO A (X). The high-to-low transition of D\B\F\ stores the binary value of B0-B8 as (See Datasheet)", 23 ~{RSTA} (in) "Reset. A reset is accomplished in each direction by taking R\S\T\A\ and R\S\T\B\ low. This sets E\M\P\T\Y\A\, E\M\P\T\Y\B\, F\U\L\L\A\, F\U\L\L\B\, and AF/AEB high. Both FIFOs must be reset upon power up.", 25 ~{RSTB} (in) "Reset. A reset is accomplished in each direction by taking R\S\T\A\ and R\S\T\B\ low. This sets E\M\P\T\Y\A\, E\M\P\T\Y\B\, F\U\L\L\A\, F\U\L\L\B\, and AF/AEB high. Both FIFOs must be reset upon power up.", 26 ~{DBF} (in) "Define-flag inputs. The high-to-low transition of D\A\F\ stores the binary value on A0-A8 as the almost-full/almost-empty offset value for FIFO A (X). The high-to-low transition of D\B\F\ stores the binary value of B0-B8 as (See Datasheet)", 27 ~{EMPTYA} (out) "Empty flags. E\M\P\T\Y\A\ and E\M\P\T\Y\B\ are low when their corresponding memories are empty and high when they are not empty.", 29 UNCKA (in) "Unload clocks. Data in FIFO A is read to B0-B8 on a low-to-high transition of UNCKA. Data in FIFO B is read to A0-A8 on a low-to-high transition of UNCKB. When the FIFOs are empty, UNCKA and UNCKB have no effect on data (See Datasheet)", 30 ~{FULLB} (out) "Full flags. F\U\L\L\A\ and F\U\L\L\B\ are low when their corresponding memories are full and high when they are not full.", 31 LDCKB (in) "Load clocks. Data on A0-A8 is written into FIFO A on a low-to-high transition of LDCKA. Data on B0-B8 is written into FIFO B on a low-to-high transition of LDCKB. When the FIFOs are full, LDCKA and LDCKB have no effect on (See Datasheet)", 33 HFB (out) "Half-full flags. HFA and HFB are high when their corresponding memories contain 512 or more words and low when they contain 511 or fewer words.", 34 AF/AEB (out) "Almost full/almost empty flags. The almost-full/almost-empty A flag (AF/AEA) is defined by the almost-full/almost-empty offset value for FIFO A (X). AF/AEA is high when FIFO A contains X or fewer words or 1024 - X words. (See Datasheet)", 37 B8 (io) "B-data inputs and outputs", 38 B7 (io) "B-data inputs and outputs", 40 B6 (io) "B-data inputs and outputs", 41 B5 (io) "B-data inputs and outputs", 45 B4 (io) "B-data inputs and outputs", 46 B3 (io) "B-data inputs and outputs", 50 B2 (io) "B-data inputs and outputs", 51 B1 (io) "B-data inputs and outputs", 52 B0 (io) "B-data inputs and outputs", 55 GAB (in) "Output enables. GAB, GBA control the transceiver functions. When GBA is low, A0-A8 are in the high-impedance state. When GAB is low, B0-B8 are in the high-impedance state.", 56 SAB (in) "Select-control inputs. SAB and SBA select whether real-time or stored data is transferred. A low level selects real-time data and a high level selects stored data. Eight fundamental bus-management functions can be performed (See Datasheet)", 57 SBA (in) "Select-control inputs. SAB and SBA select whether real-time or stored data is transferred. A low level selects real-time data and a high level selects stored data. Eight fundamental bus-management functions can be performed (See Datasheet)", 58 GBA (in) "Output enables. GAB, GBA control the transceiver functions. When GBA is low, A0-A8 are in the high-impedance state. When GAB is low, B0-B8 are in the high-impedance state.", 61 A0 (io) "A-data inputs and outputs", 62 A1 (io) "A-data inputs and outputs", 63 A2 (io) "A-data inputs and outputs"
part B pins: 1 VCC (power), 4 VCC (power), 5 GND (power), 6 GND (power), 9 VCC (power), 10 VCC (power), 13 GND (power), 14 GND (power), 35 GND (power), 36 GND (power), 39 VCC (power), 42 VCC (power), 43 GND (power), 44 GND (power), 47 VCC (power), 49 VCC (power), 53 GND (power), 54 GND (power), 59 GND (power), 60 GND (power), 64 VCC (power)
part C pins: 17 NC "No internal connection", 24 NC "No internal connection", 28 NC "No internal connection", 32 NC "No internal connection", 48 NC "No internal connection"